# Altium footprint library RADIAL-STD-P5-H12.5-D10.PcbLib: 1 footprints
Each footprint in its own frame and in the unit in brackets; x right, y up, seen from the top. Pads: shape width x height; smd on the part's side, far side on the other; paste and mask are expansions set on the pad; w line width, h text height; cw(c..) or ccw(c..) is an arc to the next point about the centre after c.
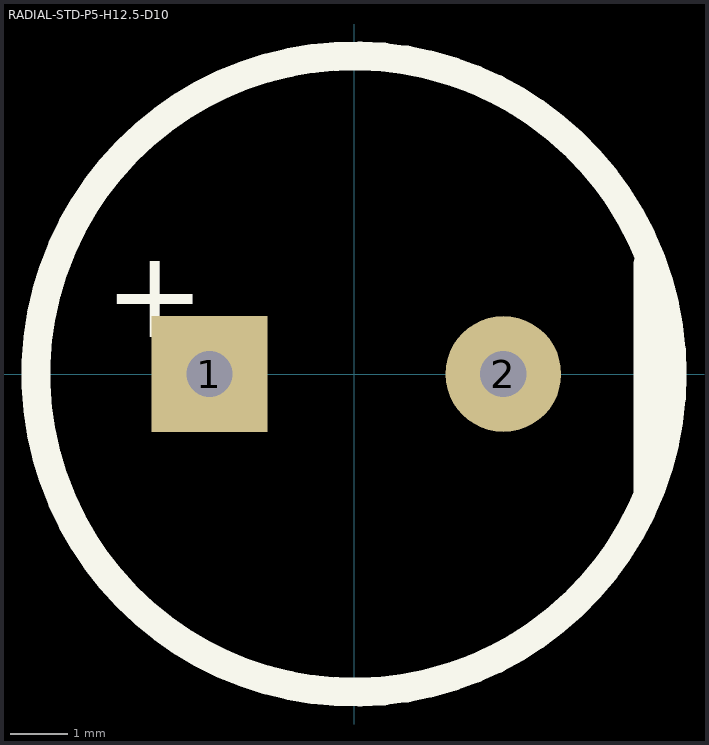
[diagram p0: the footprint, top view; thin cyan lines are the x and y axes]

## RADIAL-STD-P5-H12.5-D10 [mm] "Radial capacitor, pitch 5mm, 10mm diam, 12.5 height"
pads (2):
  rect 2x2 hole 0.8: 1(-2.5,0)
  round 2 hole 0.8: 2(2.58,0)
Top Overlay:
  circle w0.5: c-0.001,0 r5.5
  lines w0.5: 5.08,-2.032 5.08,1.905
  text "+" at -4.318,0.635 h1.52
3D body: height 12.5, standoff 0, extent -5.008,-4.9 4.953,5.08